# Altium integrated library Test Points.IntLib: 3 symbols
Pins are listed as number, name and electrical type; pins without a type are passive.

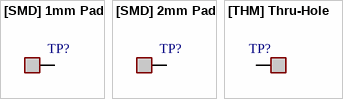
[diagram p0: symbols [SMD] 1mm Pad to [THM] Thru-Hole]

## [SMD] 1mm Pad
designator TP?  (value not drawn)  (no BOM)
footprint [SMD] 1mm Pad
pins: 1

## [SMD] 2mm Pad
designator TP?  (value not drawn)  (no BOM)
footprint [SMD] 2mm Pad
pins: 1

## [THM] Thru-Hole
designator TP?  (value not drawn)
5012; Supplier 1: DigiKey; Supplier Part Number 1: 36-5012-ND
footprint [THM] White (5012)
pins: 1